# Altium footprint library 12402012E212A.PcbLib: 1 footprints
Each footprint in its own frame and in the unit in brackets; x right, y up, seen from the top. Pads: shape width x height; smd on the part's side, far side on the other; paste and mask are expansions set on the pad; w line width, h text height; cw(c..) or ccw(c..) is an arc to the next point about the centre after c.
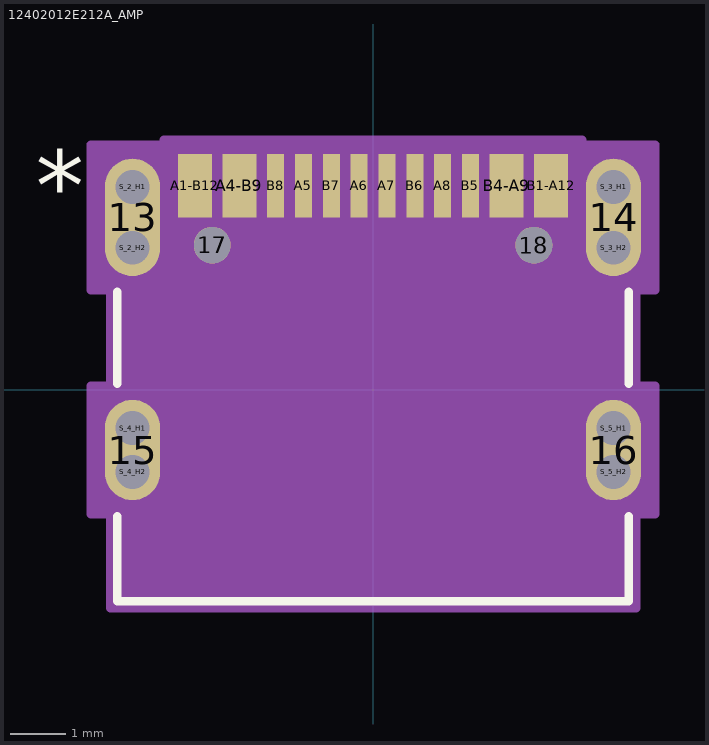
[diagram p0: the footprint, top view; thin cyan lines are the x and y axes]

## 12402012E212A_AMP [mil]
pads (26):
  oval 39x83 smd paste-41.5 mask-41.5: 13(-170.08,122.06) 14(170.08,122.06)
  oval 39x71 smd paste-35.5 mask-35.5: 15(-170.08,-42.51) 16(170.08,-42.51)
  round 26 / inner round 60 / far side round 26 hole 26 unplated paste-13 mask-13: 17(-113.78,102.37) 18(113.78,102.37)
  rect 24x45 smd paste+0 mask+0: A1-B12(-125.98,144.5) A4-B9(-94.49,144.5) B1-A12(125.98,144.5) B4-A9(94.49,144.5)
  rect 12x45 smd paste+0 mask+0: A5(-49.21,144.5) A6(-9.84,144.5) A7(9.84,144.5) A8(49.21,144.5) B5(68.9,144.5) B6(29.53,144.5) B7(-29.53,144.5) B8(-68.9,144.5)
  round 24 / inner round 60 / far side round 24 hole 24 unplated paste-12 mask-12: S_2_H1(-170.08,143.56) S_2_H2(-170.08,100.56) S_3_H1(170.08,143.56) S_3_H2(170.08,100.56) S_4_H1(-170.08,-27.01) S_4_H2(-170.08,-58.01) S_5_H1(170.08,-27.01) S_5_H2(170.08,-58.01)
Top Overlay:
  lines w6: -181,-89.22 -181,-149.5 181,-149.5 181,-89.22 ; -181,4.21 -181,69.34 ; 181,4.21 181,69.34
  text "*" at -238.48,119.5 h50
Mechanical 13:
  lines w1: -176,-144.5 -176,144.5 176,144.5 176,-144.5 -176,-144.5
  text "*" at -238.48,119.5 h50
Mechanical 15:
  region: 199.58,2.99 186,2.99 186,70.56 199.58,70.56 199.58,173.56 147.98,173.56 147.98,177 -147.98,177 -147.98,173.56 -199.58,173.56 -199.58,70.56 -186,70.56 -186,2.99 -199.58,2.99 -199.58,-88.01 -186,-88.01 -186,-154.5 186,-154.5 186,-88.01 199.58,-88.01
  lines w6: -199.58,-88.01 -186,-88.01 -186,-154.5 186,-154.5 186,-88.01 199.58,-88.01 199.58,2.99 186,2.99 186,70.56 199.58,70.56 199.58,173.56 147.98,173.56 147.98,177 -147.98,177 -147.98,173.56 -199.58,173.56 -199.58,70.56 -186,70.56 -186,2.99 -199.58,2.99 -199.58,-88.01
Multi-Layer:
  lines w24: -170.08,-58.01 -170.08,-27.01 ; -170.08,100.56 -170.08,143.56 ; 170.08,-58.01 170.08,-27.01 ; 170.08,100.56 170.08,143.56
3D body "12402012E212A--3DModel-STEP-533217.STEP": height 129.02, standoff -34.77, extent -175.98,-144.21 175.98,155